# EAGLE library part 62001621821 (library Board-to-Board (rev18a))
WR-PHD 2.00mm Dual Socket Header, 16 Pins=>Code : Con_BTB_SHD_2.00_2_62001621821 <http://katalog.we-online.de/media/thumbs2/eican/thb_Con_BTB_SHD_2.00_2_6200xx21821_pf2.jpg> Details see: http://katalog.we-online.de/en/em/PHD_2_00_DUAL_SOCKET_HEADER_6200XX21821 Created 2014-06-03, Karrer Zheng 2014 (C) Würth Elektronik
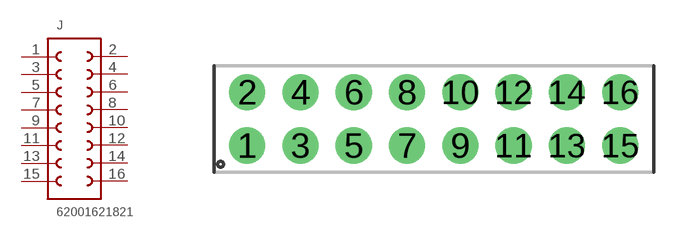
[diagram p248: symbol with the pads of 62001621821; footprint 62001621821]

Designator prefix J

## 62001621821  [62001621821]
1  1  pas
2  16  pas
3  2  pas
4  15  pas
5  3  pas
6  14  pas
7  4  pas
8  13  pas
9  5  pas
10  12  pas
11  6  pas
12  11  pas
13  7  pas
14  10  pas
15  8  pas
16  9  pas

## Footprint 62001621821 (pad centres in mm)
WR-PHD 2.00mm Dual Socket Header, 16 Pins
drill 0.85: 1 -7,-1; 2 -7,1; 3 -5,-1; 4 -5,1; 5 -3,-1; 6 -3,1; 7 -1,-1; 8 -1,1; 9 1,-1; 10 1,1; 11 3,-1; 12 3,1; 13 5,-1; 14 5,1; 15 7,-1; 16 7,1